# Altium footprint library QFP.PcbLib: 5 footprints
Each footprint in its own frame and in the unit in brackets; x right, y up, seen from the top. Pads: shape width x height; smd on the part's side, far side on the other; paste and mask are expansions set on the pad; w line width, h text height; cw(c..) or ccw(c..) is an arc to the next point about the centre after c.
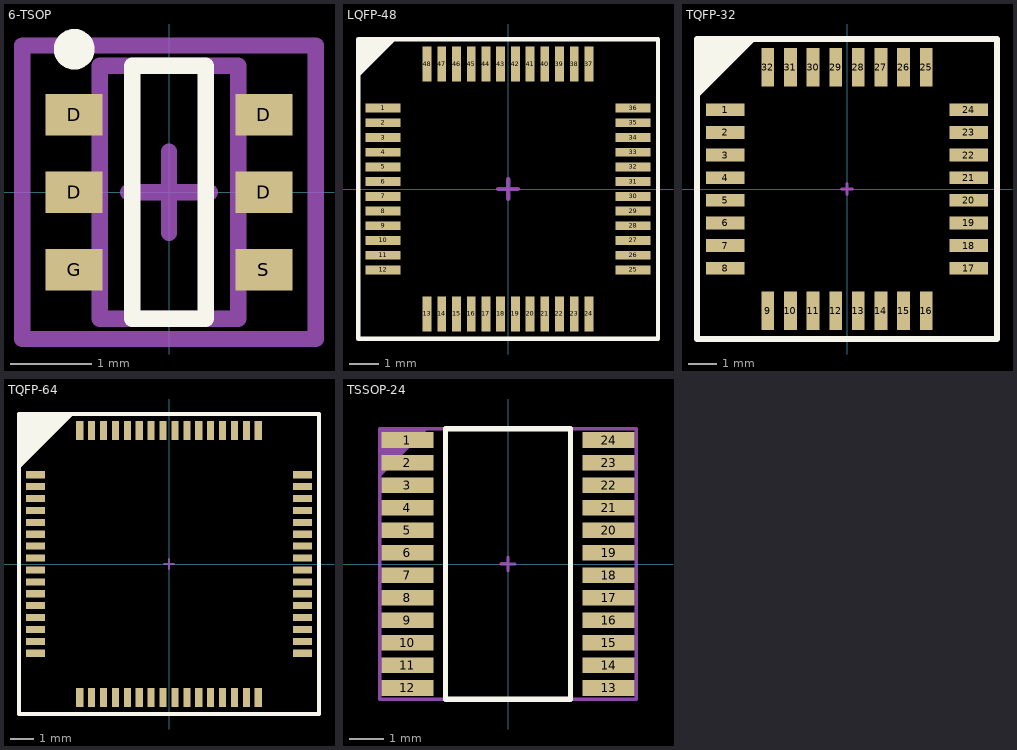
[diagram p0: the footprints below, top view; thin cyan lines are the x and y axes]

## 6-TSOP [mil]
height 43.31
pads (6):
  rect 27.52x20 smd: D(-45.77,0) D(-45.77,37.4) D(45.77,0) D(45.77,37.4) G(-45.77,-37.4) S(45.77,-37.4)
Top Overlay:
  circle w9.84: c-45.77,69.06 r4.92
  lines w7.87: -17.72,-61.02 17.72,-61.02 17.72,61.02 -17.72,61.02 -17.72,-61.02
Top Assembly:
  lines w7.87: -33.46,-61.02 33.46,-61.02 33.46,61.02 -33.46,61.02 -33.46,-61.02
  text "'.Designator'" at -99.29,92.31 h31.5
  text "BAD" at -26.46,149.72 h31.5
  text "BAD" at -27.44,195 h31.5
Top Courtyard:
  lines w7.87: -19.68,0 19.69,0 ; 0,-19.68 0,19.69 ; -70.87,-70.87 70.87,-70.87 70.87,70.87 -70.87,70.87 -70.87,-70.87
3D body "6-TSOP.step": height 43.31, standoff 0, extent -55.61,-61.02 55.61,61.02

## LQFP-48 [mm]
pads (48):
  rect 1.2x0.3 smd mask+0.04: 1(-4.25,2.75) 2(-4.25,2.25) 3(-4.25,1.75) 4(-4.25,1.25) 5(-4.25,0.75) 6(-4.25,0.25) 7(-4.25,-0.25) 8(-4.25,-0.75) 9(-4.25,-1.25) 10(-4.25,-1.75) 11(-4.25,-2.25) 12(-4.25,-2.75) 25(4.25,-2.75) 26(4.25,-2.25) 27(4.25,-1.75) 28(4.25,-1.25) 29(4.25,-0.75) 30(4.25,-0.25) 31(4.25,0.25) 32(4.25,0.75) 33(4.25,1.25) 34(4.25,1.75) 35(4.25,2.25) 36(4.25,2.75)
  rect 0.3x1.2 smd mask+0.04: 13(-2.75,-4.25) 14(-2.25,-4.25) 15(-1.75,-4.25) 16(-1.25,-4.25) 17(-0.75,-4.25) 18(-0.25,-4.25) 19(0.25,-4.25) 20(0.75,-4.25) 21(1.25,-4.25) 22(1.75,-4.25) 23(2.25,-4.25) 24(2.75,-4.25) 37(2.75,4.25) 38(2.25,4.25) 39(1.75,4.25) 40(1.25,4.25) 41(0.75,4.25) 42(0.25,4.25) 43(-0.25,4.25) 44(-0.75,4.25) 45(-1.25,4.25) 46(-1.75,4.25) 47(-2.25,4.25) 48(-2.75,4.25)
Top Overlay:
  region: -5.1,5.1 -3.8,5.1 -5.1,3.8
  lines w0.153: -5.1,-5.1 -5.1,5.1 5.1,5.1 5.1,-5.1 -5.1,-5.1
Top Assembly:
  region: -5.1,5.1 -3.8,5.1 -5.1,3.8
  lines w0.1: -5.1,-5.1 -5.1,5.1 5.1,5.1 5.1,-5.1 -5.1,-5.1
  text "'.Designator'" at -8.633,-0.635 h1.52
Top Courtyard:
  lines w0.1: -5.1,-5.1 5.1,-5.1 5.1,5.1 -5.1,5.1 -5.1,-5.1
  lines w0.153: -0.325,0 0.325,0 ; 0,-0.325 0,0.325
3D body "User Library-Quad50M48.step": height 1.56, standoff 0, extent -4.5,-4.486 4.5,4.514

## TQFP-32 [mm]
pads (32):
  rect 1.35x0.45 smd: 1(-4.3,2.8) 2(-4.3,2) 3(-4.3,1.2) 4(-4.3,0.4) 5(-4.3,-0.4) 6(-4.3,-1.2) 7(-4.3,-2) 8(-4.3,-2.8) 17(4.3,-2.8) 18(4.3,-2) 19(4.3,-1.2) 20(4.3,-0.4) 21(4.3,0.4) 22(4.3,1.2) 23(4.3,2) 24(4.3,2.8)
  rect 0.45x1.35 smd: 9(-2.8,-4.3) 10(-2,-4.3) 11(-1.2,-4.3) 12(-0.4,-4.3) 13(0.4,-4.3) 14(1.2,-4.3) 15(2,-4.3) 16(2.8,-4.3) 25(2.8,4.3) 26(2,4.3) 27(1.2,4.3) 28(0.4,4.3) 29(-0.4,4.3) 30(-1.2,4.3) 31(-2,4.3) 32(-2.8,4.3)
Top Overlay:
  region: -5.3,5.3 -5.3,3.2 -3.2,5.3
  lines w0.2: -5.3,-5.3 5.3,-5.3 5.3,5.3 -5.3,5.3 -5.3,-5.3
Top Assembly:
  region: -5.3,5.3 -5.3,3.9 -3.9,5.3
  lines w0.1: -5.3,-5.3 5.3,-5.3 5.3,5.3 -5.3,5.3 -5.3,-5.3
  text "'.Designator'" at -4.532,-0.333 h0.8
Top Courtyard:
  lines w0.1: -0.2,0 0.2,0 ; 0,-0.2 0,0.2 ; -5.3,-5.3 5.3,-5.3 5.3,5.3 -5.3,5.3 -5.3,-5.3
3D body "User Library-TQFP32-1.step": height 1.1, standoff 0, extent -4.509,-4.509 4.509,4.509

## TQFP-64 [mm]
pads (64):
  rect 0.8x0.3 smd mask+0.02: 1(-5.6,3.75) 2(-5.6,3.25) 3(-5.6,2.75) 4(-5.6,2.25) 5(-5.6,1.75) 6(-5.6,1.25) 7(-5.6,0.75) 8(-5.6,0.25) 9(-5.6,-0.25) 10(-5.6,-0.75) 11(-5.6,-1.25) 12(-5.6,-1.75) 13(-5.6,-2.25) 14(-5.6,-2.75) 15(-5.6,-3.25) 16(-5.6,-3.75) 33(5.6,-3.75) 34(5.6,-3.25) 35(5.6,-2.75) 36(5.6,-2.25) 37(5.6,-1.75) 38(5.6,-1.25) 39(5.6,-0.75) 40(5.6,-0.25) 41(5.6,0.25) 42(5.6,0.75) 43(5.6,1.25) 44(5.6,1.75) 45(5.6,2.25) 46(5.6,2.75) 47(5.6,3.25) 48(5.6,3.75)
  rect 0.3x0.8 smd mask+0.02: 17(-3.75,-5.6) 18(-3.25,-5.6) 19(-2.75,-5.6) 20(-2.25,-5.6) 21(-1.75,-5.6) 22(-1.25,-5.6) 23(-0.75,-5.6) 24(-0.25,-5.6) 25(0.25,-5.6) 26(0.75,-5.6) 27(1.25,-5.6) 28(1.75,-5.6) 29(2.25,-5.6) 30(2.75,-5.6) 31(3.25,-5.6) 32(3.75,-5.6) 49(3.75,5.6) 50(3.25,5.6) 51(2.75,5.6) 52(2.25,5.6) 53(1.75,5.6) 54(1.25,5.6) 55(0.75,5.6) 56(0.25,5.6) 57(-0.25,5.6) 58(-0.75,5.6) 59(-1.25,5.6) 60(-1.75,5.6) 61(-2.25,5.6) 62(-2.75,5.6) 63(-3.25,5.6) 64(-3.75,5.6)
Top Overlay:
  region: -6.3,6.3 -6.3,4 -4,6.3
  lines w0.153: -6.3,-6.3 -6.3,6.3 6.3,6.3 6.3,-6.3 -6.3,-6.3
Top Assembly:
  region: -6.3,6.3 -6.3,4.9 -4.9,6.3
  lines w0.1: -6.3,-6.3 -6.3,6.3 6.3,6.3 6.3,-6.3 -6.3,-6.3
  text "'.Designator'" at -4.53,-0.333 h0.8
Top Courtyard:
  lines w0.1: -0.2,0 0.2,0 ; 0,-0.2 0,0.2 ; -6.3,-6.3 -6.3,6.3 6.3,6.3 6.3,-6.3 -6.3,-6.3
3D body "User Library-S-PQFP-G64.step": height 1, standoff 0, extent -5.787,-5.79 5.787,5.791

## TSSOP-24 [mm]
pads (24):
  rect 1.5x0.45 smd mask+0.05: 1(-2.9,3.575) 2(-2.9,2.925) 3(-2.9,2.275) 4(-2.9,1.625) 5(-2.9,0.975) 6(-2.9,0.325) 7(-2.9,-0.325) 8(-2.9,-0.975) 9(-2.9,-1.625) 10(-2.9,-2.275) 11(-2.9,-2.925) 12(-2.9,-3.575) 13(2.9,-3.575) 14(2.9,-2.925) 15(2.9,-2.275) 16(2.9,-1.625) 17(2.9,-0.975) 18(2.9,-0.325) 19(2.9,0.325) 20(2.9,0.975) 21(2.9,1.625) 22(2.9,2.275) 23(2.9,2.925) 24(2.9,3.575)
Top Overlay:
  lines w0.153: -1.8,-3.9 -1.8,3.9 1.8,3.9 1.8,-3.9 -1.8,-3.9
  text "." at -3.047,4.253 h0.8
Top Assembly:
  region: -3.7,3.9 -3.7,2.5 -2.3,3.9
  lines w0.1: -3.7,-3.9 3.7,-3.9 3.7,3.9 -3.7,3.9 -3.7,-3.9
  text "'.Designator'" at -0.333,4.532 h0.8
Top Courtyard:
  lines w0.1: -0.2,0 0.2,0 ; 0,-0.2 0,0.2
Bottom Courtyard:
  lines w0.1: -0.196,0.002 0.004,0.002 ; 0,-0.2 0,0 ; 0,0.2 0,0 ; 0.2,0 0,0 ; -3.7,-3.9 -3.7,3.9 3.7,3.9 3.7,-3.9 -3.7,-3.9
3D body "User Library-AD8400 TSSOP.step": height 1.17, standoff -0.01, extent -3.203,-3.94 3.203,3.95